# Altium schematic symbol library Samtec_Library.SchLib: 1 symbol
Pins are listed as number, name and electrical type; pins without a type are passive.

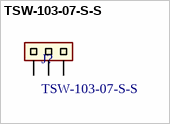
[diagram p0: symbol TSW-103-07-S-S]

## TSW-103-07-S-S
designator J?
Conn Unshrouded Header HDR 3 POS 2.54mm Solder ST Thru-Hole Bulk; Manufacturer: Samtec; Number of Contacts: 3; Gender: Male; Max Current Rating: 7.6A; Max Voltage Rating (AC): 550V; Connector Type: Male Pin; Supplier 1: Digi-Key; Manufacturer Part Number: TSW-103-07-S-S; Stock 1: 950; Pricing 1: 1=1.22, 10=1.089, 100=0.8965, 500=0.70868, 1000=0.60836, 5000=0.555, 10000=0.53365 (USD); Mount: Through Hole; Contact Plating: Nickel,Gold; Contact Material: Bronze; Housing Colour: Black; Housing Material: Polyester; Colour: Black; Min Operating Temperature: -55°C; Max Operating Temperature: 125°C; Number of Rows: 1; Termination: Solder; Packaging: Bulk; Orientation: Straight; Number of Positions: 3; Package Quantity: 1; Length: 7.62mm; Pitch: 2.54mm; Depth: 2.54mm; Contact Mating Length: 0.23inch; Width: 2.54mm; Radiation Hardening: No; REACH SVHC: No SVHC; Lead Free: Lead Free; ComponentLink1URL: https://datasheet.ciiva.com/16733/htsw-th-16733894.pdf; ComponentLink1Description: https://datasheet.ciiva.com/16733/htsw-th-16733894.pdf; ComponentLink2URL: https://datasheet.ciiva.com/48561/htsw-th-48561433.pdf; ComponentLink2Description: https://datasheet.ciiva.com/48561/htsw-th-48561433.pdf; ComponentLink3URL: https://datasheet.ciiva.com/6887/tsw-xxx-xx-xxx-x-xx-xxx-mkt-6887228.pdf; ComponentLink3Description: https://datasheet.ciiva.com/6887/tsw-xxx-xx-xxx-x-xx-xxx-mkt-6887228.pdf
footprint Samtec TSW-103-07-S-S
pins: 1, 2, 3